# Altium schematic symbol library Schlib1.SchLib: 5 symbols
Pins are listed as number, name and electrical type; pins without a type are passive.

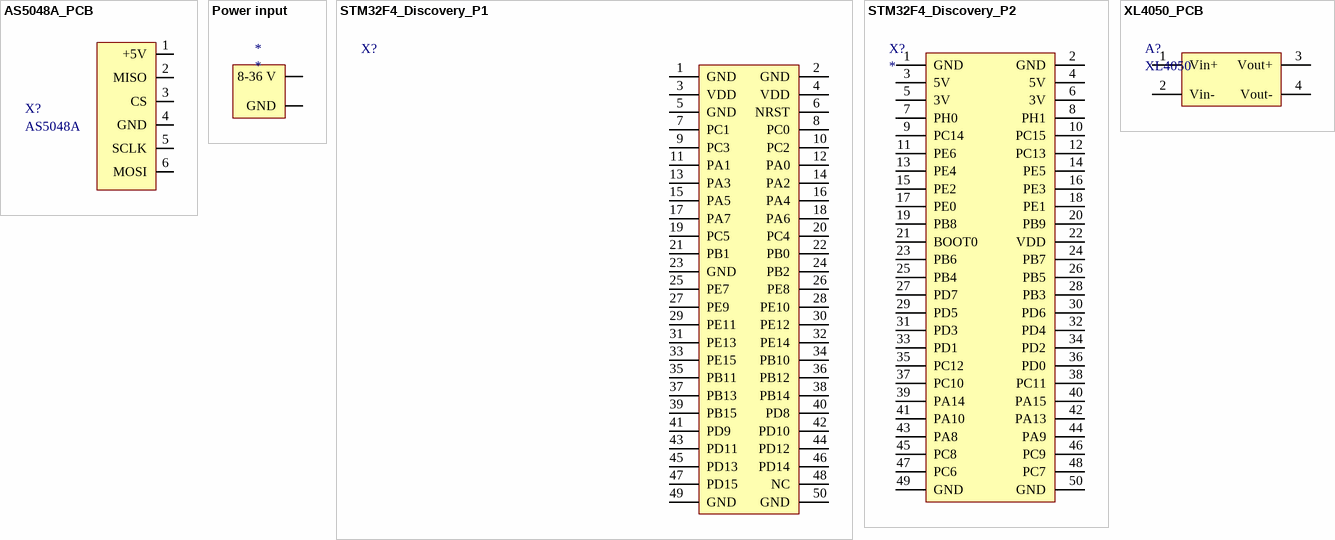
[diagram p0: symbols AS5048A_PCB to XL4050_PCB]

## AS5048A_PCB
designator X?, comment AS5048A
footprint AS5048A_input
pins: 1 +5V, 2 MISO, 3 CS, 4 GND, 5 SCLK, 6 MOSI

## Power input
designator *
footprint Power input
pins: 1 8-36 V, 2 GND

## STM32F4_Discovery_P1
designator X?  (value not drawn)
footprint STM32F4Discovery_P
pins: 1 GND, 2 GND, 3 VDD, 4 VDD, 5 GND, 6 NRST, 7 PC1, 8 PC0, 9 PC3, 10 PC2, 11 PA1, 12 PA0, 13 PA3, 14 PA2, 15 PA5, 16 PA4, 17 PA7, 18 PA6, 19 PC5, 20 PC4, 21 PB1, 22 PB0, 23 GND, 24 PB2, 25 PE7, 26 PE8, 27 PE9, 28 PE10, 29 PE11, 30 PE12, 31 PE13, 32 PE14, 33 PE15, 34 PB10, 35 PB11, 36 PB12, 37 PB13, 38 PB14, 39 PB15, 40 PD8, 41 PD9, 42 PD10, 43 PD11, 44 PD12, 45 PD13, 46 PD14, 47 PD15, 48 NC, 49 GND, 50 GND

## STM32F4_Discovery_P2
designator X?
footprint STM32F4Discovery_P
pins: 1 GND, 2 GND, 3 5V, 4 5V, 5 3V, 6 3V, 7 PH0, 8 PH1, 9 PC14, 10 PC15, 11 PE6, 12 PC13, 13 PE4, 14 PE5, 15 PE2, 16 PE3, 17 PE0, 18 PE1, 19 PB8, 20 PB9, 21 BOOT0, 22 VDD, 23 PB6, 24 PB7, 25 PB4, 26 PB5, 27 PD7, 28 PB3, 29 PD5, 30 PD6, 31 PD3, 32 PD4, 33 PD1, 34 PD2, 35 PC12, 36 PD0, 37 PC10, 38 PC11, 39 PA14, 40 PA15, 41 PA10, 42 PA13, 43 PA8, 44 PA9, 45 PC8, 46 PC9, 47 PC6, 48 PC7, 49 GND, 50 GND

## XL4050_PCB
designator A?, comment XL4050
footprint XL4050_PCB
pins: 1 Vin+, 2 Vin-, 3 Vout+, 4 Vout-